# Altium schematic symbol library RES,0R005,1%,2W,2512.Schlib: 1 symbol
Pins are listed as number, name and electrical type; pins without a type are passive.

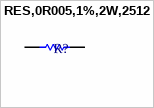
[diagram p0: symbol RES,0R005,1%,2W,2512]

## RES,0R005,1%,2W,2512
designator R?
pins: 1, 2